# Altium footprint library Components.PcbLib: 163 footprints (part 6 of 11)
Each footprint in its own frame and in the unit in brackets; x right, y up, seen from the top. Pads: shape width x height; smd on the part's side, far side on the other; paste and mask are expansions set on the pad; w line width, h text height; cw(c..) or ccw(c..) is an arc to the next point about the centre after c.
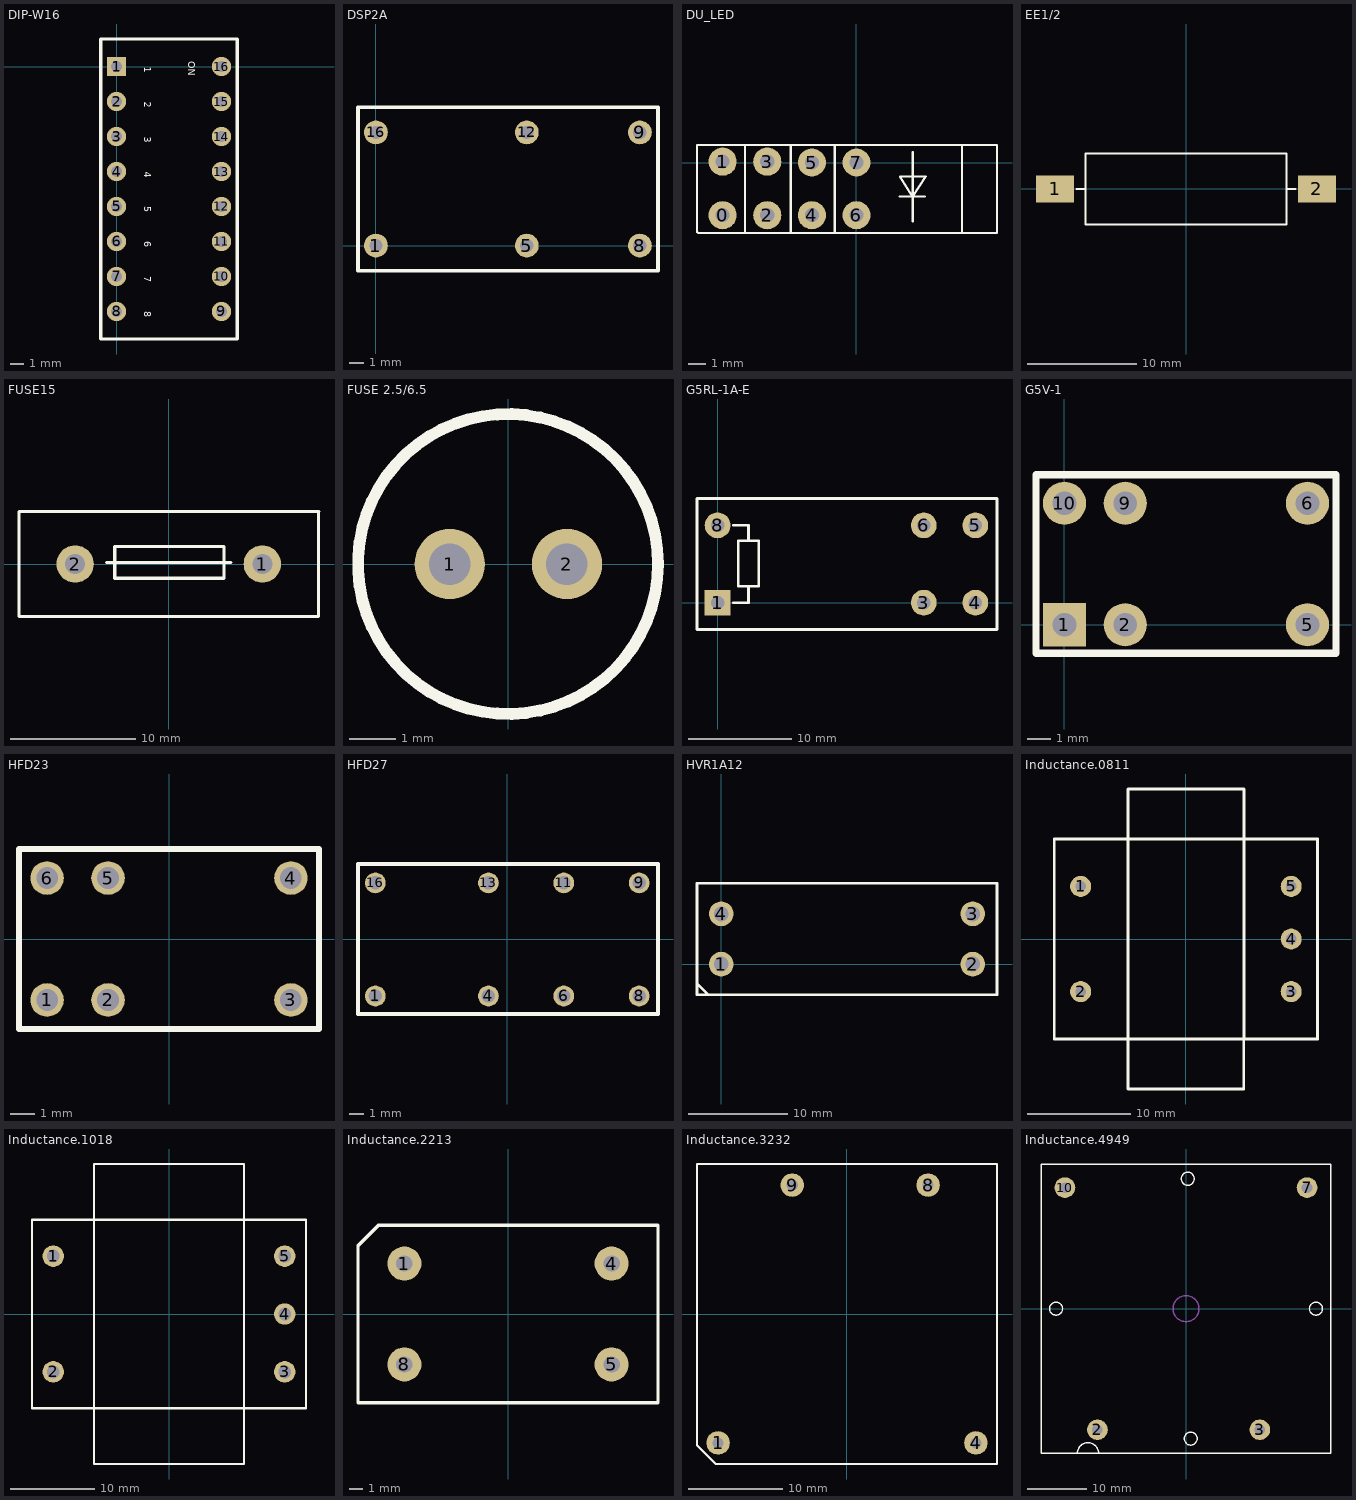
[diagram p5: the footprints below, top view; thin cyan lines are the x and y axes]

## DIP-W16 [mm]
pads (16):
  rect 1.4x1.4 hole 0.8: 1(0,0)
  round 1.4 hole 0.8: 2(0,-2.54) 3(0,-5.08) 4(0,-7.62) 5(0,-10.16) 6(0,-12.7) 7(0,-15.24) 8(0,-17.78) 9(7.62,-17.78) 10(7.62,-15.24) 11(7.62,-12.7) 12(7.62,-10.16) 13(7.62,-7.62) 14(7.62,-5.08) 15(7.62,-2.54) 16(7.62,0)
Top Overlay:
  lines w0.254: -1.14,-19.78 -1.14,2 8.76,2 8.76,-19.78 -1.14,-19.78
  text "ON" at 5.2,0.4 h0.51
  text "1" at 2,0 h0.51
  text "2" at 2,-2.54 h0.51
  text "3" at 2,-5.08 h0.51
  text "4" at 2,-7.62 h0.51
  text "6" at 2,-12.7 h0.51
  text "7" at 2,-15.24 h0.51
  text "8" at 2,-17.78 h0.51
  text "5" at 2,-10.16 h0.51

## DSP2A [mm]
pads (6):
  round 1.6 hole 0.9: 1(0,0) 5(10.16,0) 8(17.78,0) 9(17.78,7.62) 12(10.16,7.62) 16(0,7.62)
Top Overlay:
  lines w0.254: 18.99,-1.69 -1.21,-1.69 -1.21,9.31 18.99,9.31 ; 19,-1.69 19,9.31

## DU_LED [mm]
pads (8):
  round 1.6 hole 0.8: 0(-7.62,-3) 1(-7.62,0.048) 2(-5.08,-3) 3(-5.08,0.048) 4(-2.54,-3) 5(-2.54,0) 6(0,-3) 7(0,0)
Top Overlay:
  lines w0.127: -6.35,-4 -6.35,1 ; -3.74,-4 -3.74,1 ; -1.24,-4 -1.24,1 ; 2.455,-1.943 3.903,-1.943 ; 3.2,-3.34 3.2,0.597 ; 6,-4 6,1 ; -3.74,1 6,1 ; -3.74,1 -7.048,1 -9.08,1 -9.08,-3.952 -9.016,-4.016 -8.636,-4.016 -3.556,-4.016 6,-4.016 8,-4.016 8,1 6,1 ; 2.489,-0.8 3.2,-1.943 3.937,-0.8 2.489,-0.8

## EE1/2 [mm] "RJ56"
pads (2):
  rect 3.5x2.5 smd: 1(-12,0) 2(12,0)
Top Overlay:
  lines w0.2: -10.033,0 -9.2,0 ; 9.192,-3.25 -9.2,-3.25 -9.2,3.25 9.227,3.25 9.227,-3.215 ; 9.227,0 10.033,0

## FUSE15 [mm] "5*20  15mm"
pads (2):
  round 3 hole 1.6: 1(7.5,0) 2(-7.5,0)
Top Overlay:
  lines w0.254: -5,0.127 5,0.127 ; -4.333,1.27 -4.333,1.143 ; -4.333,1.143 -4.333,1.397 4.43,1.397 4.43,-1.143 -4.333,-1.143 -4.333,1.143 ; -12,-4.2 -12,4.2 12.041,4.2 12,4.159 12,-4.2 -12,-4.2

## FUSE 2.5/6.5 [mil] "2.5*6.5mm"
pads (2):
  round 60 hole 35.43: 1(-50,0) 2(50,0)
Top Overlay:
  circle w10: c-0.31,0.03 r127.95

## G5RL-1A-E [mm] "G5RL-1A-E"
pads (6):
  rect 2.5x2.5 hole 1.3: 1(0,0)
  round 2.5 hole 1.3: 3(20,0) 4(25,0) 5(25,7.5) 6(20,7.5) 8(0,7.5)
Top Overlay:
  lines w0.254: 1.5,0 3,0 3,1.6 ; 1.5,7.5 3,7.5 3,6 ; 2,1.6 4,1.6 4,6 2,6 2,1.6
  lines w0.3: 27,-2.6 -2,-2.6 -2,10.1 27,10.1 ; 27.1,-2.6 27.1,10.1

## G5V-1 [mm]
pads (6):
  rect 1.8x1.8 hole 1: 1(0,0)
  round 1.8 hole 1: 2(2.54,0) 5(10.16,0) 6(10.16,5.08) 9(2.54,5.08) 10(0,5.08)
Top Overlay:
  lines w0.3: -1.19,-1.19 -1.19,6.27 11.35,6.27 11.35,-1.19 -1.19,-1.19

## HFD23 [mm] "HFD23"
pads (6):
  round 1.4 hole 0.9: 1(-5.08,-2.54) 2(-2.54,-2.54) 3(5.08,-2.54) 4(5.08,2.54) 5(-2.54,2.54) 6(-5.08,2.54)
Top Overlay:
  lines w0.254: -6.25,-3.75 6.25,-3.75 6.25,3.75 -6.25,3.75 -6.25,-3.75

## HFD27 [mm] "HFD27"
pads (8):
  round 1.4 hole 0.9: 1(-8.89,-3.81) 4(-1.27,-3.81) 6(3.81,-3.81) 8(8.89,-3.81) 9(8.89,3.81) 11(3.81,3.81) 13(-1.27,3.81) 16(-8.89,3.81)
Top Overlay:
  lines w0.254: -10.06,-5.02 10.16,-5.02 10.16,5.08 -10.06,5.08 -10.06,-5.02

## HVR1A12 [mm] "HVR1A12"
pads (4):
  round 2.5 hole 1.5: 1(0,0) 2(25.4,0) 3(25.4,5.08) 4(0,5.08)
Top Overlay:
  lines w0.254: -2.45,-2 -2.41,-2 -1.3,-3.11 ; -2.45,-1.66 -2.45,-1.5 ; 27.81,8.19 -2.45,8.19 -2.45,-3.11 27.85,-3.11 27.85,8.19

## Inductance.0811 [mil] "20mH/100Hz"
height 1040
pads (5):
  round 80 hole 40: 1(-400,200) 2(-400,-200) 3(400,-200) 4(400,0) 5(400,200)
Top Overlay:
  lines w10: 220,-380 220,-570 -220,-570 -220,-380 ; 220,570 -220,570 -220,380 ; 220.47,570 220.47,380 ; 500,-380 500,380 ; 500.47,-380 220.47,-380 ; 500.47,380 220.47,380 ; -220,-380 220.47,-380 ; -220,-380 -220,380 ; -220,-380 -500,-380 -500,380 -220,380 ; -220,380 220.47,380 ; 220.47,-380 220.47,380

## Inductance.1018 [mil] "20mH/100Hz"
height 1200
pads (5):
  round 100 hole 60: 1(-540,270) 2(-540,-270) 3(540,-270) 4(540,0) 5(540,270)
Top Overlay:
  lines w10: -640,-440 -640,440 640,440 640,-440 -640,-440 ; -350,-700 350,-700 350,700 -350,700 -350,-700

## Inductance.2213 [mm]
pads (4):
  round 2.5 hole 1.2: 1(-7.6,3.7) 4(7.6,3.7) 5(7.6,-3.7) 8(-7.6,-3.7)
Top Overlay:
  lines w0.254: -11,-6.5 -11,5 -9.5,6.5 11,6.5 11,-6.5 -11,-6.5

## Inductance.3232 [mm]
pads (4):
  round 2.5 hole 1.2: 1(-13.75,-13.75) 4(13.75,-13.75) 8(8.65,13.75) 9(-5.85,13.75)
Top Overlay:
  lines w0.254: -16,-14 -16,16 16,16 16,-16 -14,-16 -16,-14

## Inductance.4949 [mm]
pads (4):
  round 3.5 hole 1.8: 2(-15,-20.5) 3(12.5,-20.5) 7(20.5,20.5) 10(-20.5,20.5)
Top Overlay:
  circle w0.254: c0.8,-22 r1.1
  circle w0.254: c-22,0 r1.1
  circle w0.254: c0.3,22 r1.1
  circle w0.254: c22,0 r1.1
  lines w0.254: -18.4,-24.5 cw(c-16.6,-24.5) -14.8,-24.5 ; -24.5,-24.5 -24.5,24.5 24.5,24.5 24.5,-24.5 -24.5,-24.5
Mechanical 1:
  circle w0.254: c0,0 r2.2